# EAGLE library part LM5050 (library borkedlabs-powerics)
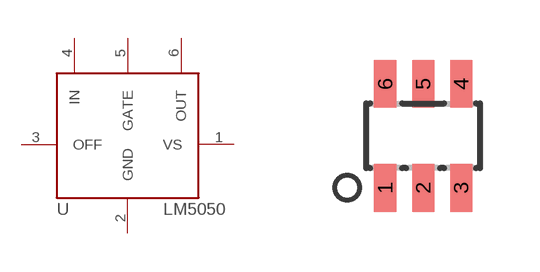
[diagram p16: symbol with the pads of SOT23-6; footprint SOT23-6]

Designator prefix U

## LM5050-1 (MPN: LM5050-1; PACKAGE: SOT23-6)  [SOT23-6]
1  VS
2  GND
3  OFF
4  IN
5  GATE
6  OUT

## Footprint SOT23-6 (pad centres in mm)
Small Outline Transistor DBV (R-PDSO-G5) Source: http://focus.ti.com/lit/ds/symlink/tps77001.pdf
smd 0.55 x 1.2: 1 -0.95,-1.3; 2 0,-1.3; 3 0.95,-1.3; 4 0.95,1.3; 5 0,1.3; 6 -0.95,1.3